# Altium schematic symbol library SMD Adjustable resistors.SchLib: 5 symbols
Pins are listed as number, name and electrical type; pins without a type are passive.

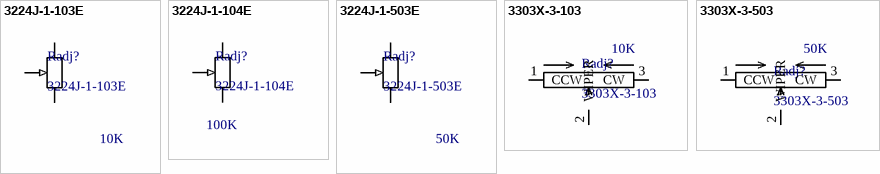
[diagram p0: symbols 3224J-1-103E to 3303X-3-503]

## 3224J-1-103E
designator Radj?  value 10K
footprint 3224J (BOURNS 3224J Side Adjust)
pins: 1 CCW, 2 WIPER, 3 CW

## 3224J-1-104E
designator Radj?  value 100K
footprint 3224J (BOURNS 3224J Side Adjust)
pins: 1 CCW, 2 WIPER, 3 CW

## 3224J-1-503E
designator Radj?  value 50K
footprint 3224J (BOURNS 3224J Side Adjust)
pins: 1 CCW, 2 WIPER, 3 CW

## 3303X-3-103
designator Radj?  value 10K
3x3mm smt potentiometer 20%
footprint 3303W, X-3 Bourns (3303 - 3 mm SMD Trimpot® Trimming Potentiometer)
pins: 1 CCW, 2 WIPER, 3 CW

## 3303X-3-503
designator Radj?  value 50K
footprint 3303W, X-3 Bourns (3303 - 3 mm SMD Trimpot® Trimming Potentiometer)
pins: 1 CCW, 2 WIPER, 3 CW